# Altium footprint library Components.PcbLib: 17 footprints (part 1 of 2)
Each footprint in its own frame and in the unit in brackets; x right, y up, seen from the top. Pads: shape width x height; smd on the part's side, far side on the other; paste and mask are expansions set on the pad; w line width, h text height; cw(c..) or ccw(c..) is an arc to the next point about the centre after c.
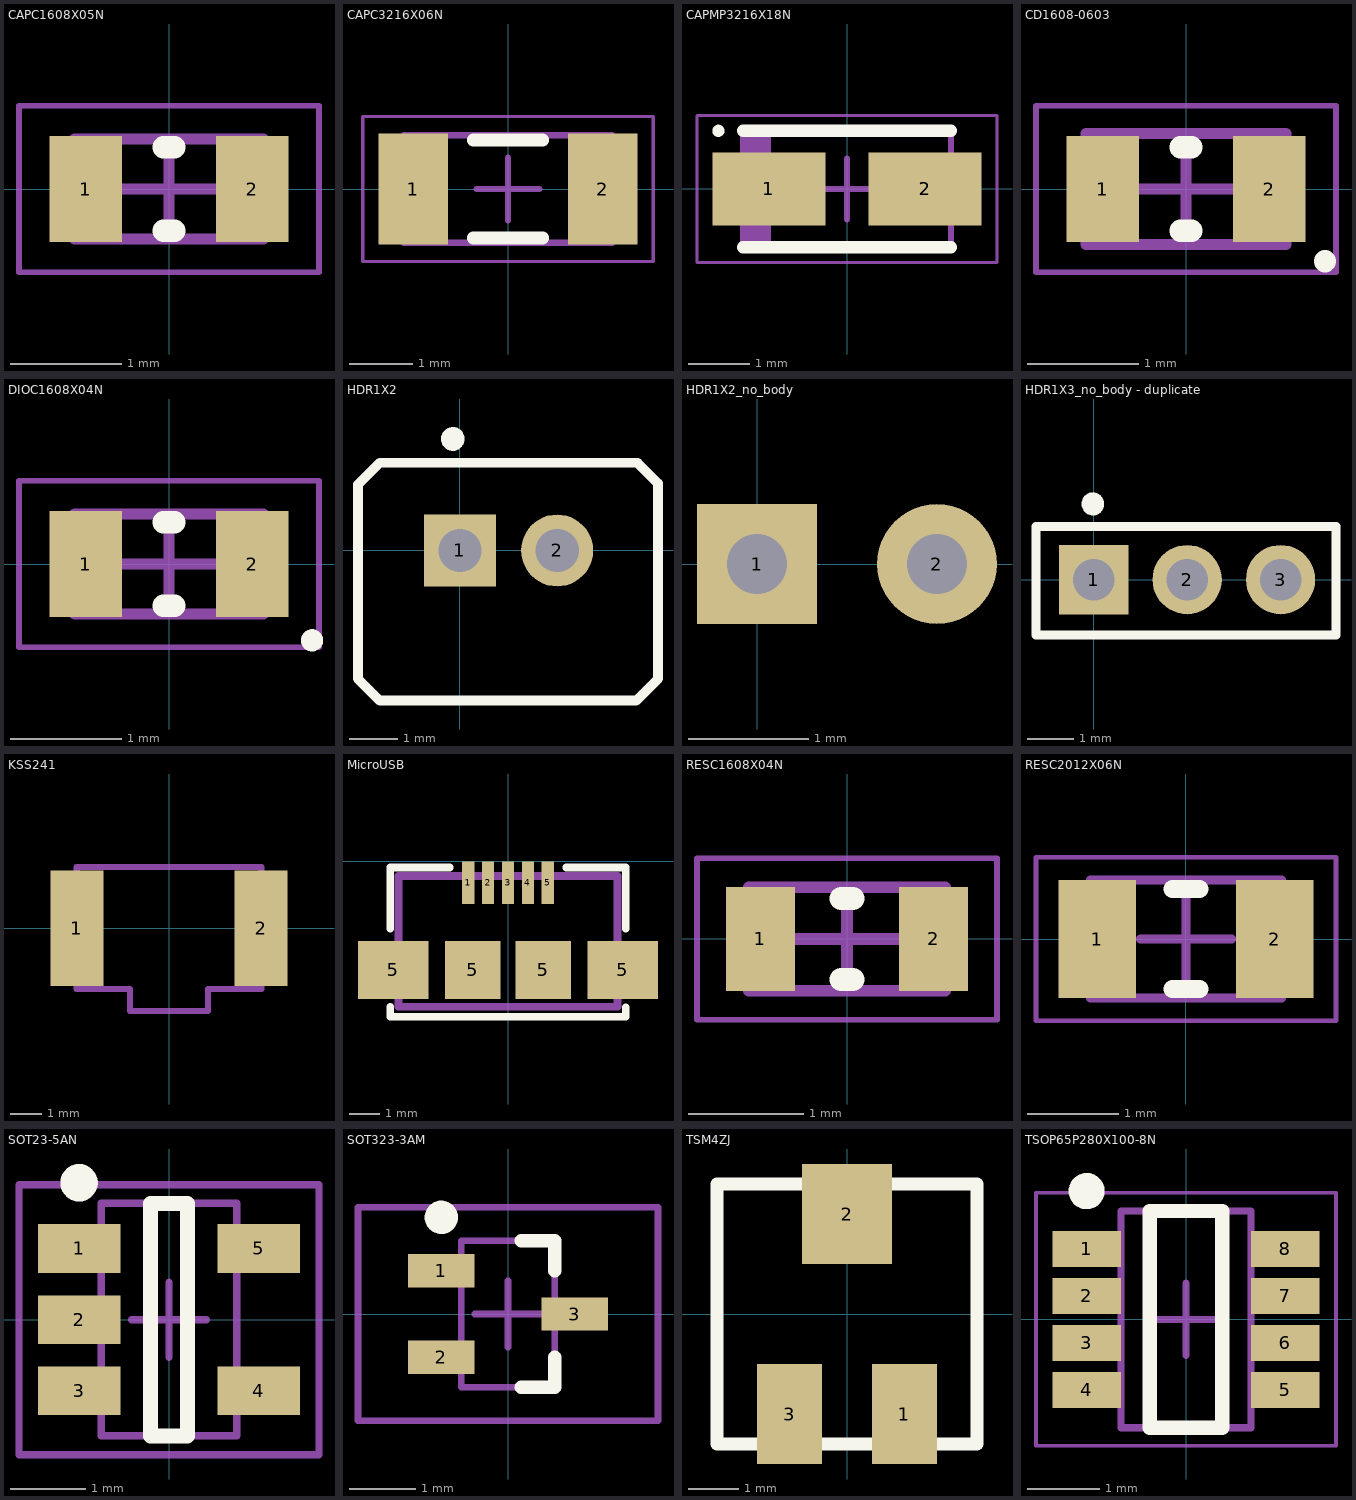
[diagram p0: the footprints below, top view; thin cyan lines are the x and y axes]

## CAPC1608X05N [mm] "Chip Capacitor, 2-Leads, Body 1.60x0.80mm, IPC Medium Density"
height 0.5
pads (2):
  rect 0.65x0.95 smd: 1(-0.75,0) 2(0.75,0)
Top Overlay:
  lines w0.2: -0.05,-0.375 0.05,-0.375 ; -0.05,0.375 0.05,0.375
Mechanical 13:
  lines w0.1: -0.85,-0.45 -0.85,0.45 0.85,0.45 0.85,-0.45 -0.85,-0.45
Mechanical 15:
  lines w0.05: -1.35,-0.75 -1.35,0.75 1.35,0.75 1.35,-0.75 -1.35,-0.75
  lines w0.1: -0.45,0 0.45,0 ; 0,-0.45 0,0.45
3D body: height 0.5, standoff 0, extent -0.6,-0.45 0.6,0.45
3D body: height 0.5, standoff 0, extent -0.85,-0.45 -0.6,0.45
3D body: height 0.5, standoff 0, extent 0.6,-0.45 0.85,0.45

## CAPC3216X06N [mm] "Chip Capacitor, 2-Leads, Body 3.20x1.60mm, IPC Medium Density"
height 0.6
pads (2):
  rect 1.1x1.75 smd: 1(-1.5,0) 2(1.5,0)
Top Overlay:
  lines w0.2: -0.55,-0.775 0.55,-0.775 ; -0.55,0.775 0.55,0.775
Mechanical 13:
  lines w0.1: -1.65,-0.85 1.65,-0.85 1.65,0.85 -1.65,0.85 -1.65,-0.85
Mechanical 15:
  lines w0.05: -2.3,-1.15 2.3,-1.15 2.3,1.15 -2.3,1.15 -2.3,-1.15
  lines w0.1: -0.5,0 0.5,0 ; 0,-0.5 0,0.5
3D body: height 0.6, standoff 0, extent 1.15,-0.85 1.65,0.85
3D body: height 0.6, standoff 0, extent -1.65,-0.85 -1.15,0.85
3D body: height 0.6, standoff 0, extent -1.15,-0.85 1.15,0.85

## CAPMP3216X18N [mm] "Molded Capacitor, 2-Leads, Body 3.20x1.60mm, IPC Medium Density"
height 1.8
pads (2):
  rect 1.85x1.2 smd: 1(-1.275,0) 2(1.275,0)
Top Overlay:
  circle w0.1: c-2.1,0.95 r0.05
  lines w0.2: -1.7,-0.95 1.7,-0.95 ; -1.7,0.95 1.7,0.95
Mechanical 13:
  rectangle: -1.7,-0.9 -1.243,0.9
  lines w0.1: -1.7,-0.9 -1.7,0.9 1.7,0.9 1.7,-0.9 -1.7,-0.9
Mechanical 15:
  lines w0.05: -2.45,-1.2 -2.45,1.2 2.45,1.2 2.45,-1.2 -2.45,-1.2
  lines w0.1: -0.5,0 0.5,0 ; 0,-0.5 0,0.5
3D body: height 1.8, standoff 0, extent -1.7,-0.9 1.7,0.9

## CD1608-0603 [mm]
pads (2):
  rect 0.65x0.95 smd: 1(-0.75,0) 2(0.75,0)
Top Overlay:
  lines w0.2: -0.05,-0.375 0.05,-0.375 ; -0.05,0.375 0.05,0.375 ; 1.25,-0.65 1.25,-0.65
Mechanical 1:
  lines w0.1: -0.9,-0.5 -0.9,0.5 0.9,0.5 0.9,-0.5 -0.9,-0.5
Mechanical 15:
  lines w0.05: -1.35,-0.75 1.35,-0.75 1.35,0.75 -1.35,0.75 -1.35,-0.75
  lines w0.1: -0.45,0 0.45,0 ; 0,-0.45 0,0.45
3D body "LED0603.STEP": height 0.59, standoff -0.01, extent -0.8,-0.4 0.8,0.4

## DIOC1608X04N [mm] "Chip Diode, 2-Leads, Body 1.60x0.80mm, IPC Medium Density"
height 0.4
pads (2):
  rect 0.65x0.95 smd: 1(-0.75,0) 2(0.75,0)
Top Overlay:
  circle w0.1: c1.287,-0.687 r0.05
  lines w0.2: -0.05,-0.375 0.05,-0.375 ; -0.05,0.375 0.05,0.375
Mechanical 13:
  lines w0.1: -0.85,-0.45 -0.85,0.45 0.85,0.45 0.85,-0.45 -0.85,-0.45
Mechanical 15:
  lines w0.05: -1.35,-0.75 -1.35,0.75 1.35,0.75 1.35,-0.75 -1.35,-0.75
  lines w0.1: -0.45,0 0.45,0 ; 0,-0.45 0,0.45
3D body: height 0.4, standoff 0, extent -0.6,-0.45 0.6,0.45
3D body: height 0.4, standoff 0, extent -0.85,-0.45 -0.6,0.45
3D body: height 0.4, standoff 0, extent 0.6,-0.45 0.85,0.45

## HDR1X2 [mm]
pads (2):
  rect 1.5x1.5 hole 0.9: 1(0,0)
  round 1.5 hole 0.9: 2(2.025,0)
Top Overlay:
  circle w0.01: c-0.15,2.325 r0.237
  region: -0.15,2.088 -0.197,2.088 -0.284,2.124 -0.351,2.191 -0.387,2.278 -0.387,2.325 -0.387,2.372 -0.351,2.459 -0.284,2.526 -0.197,2.562 -0.15,2.562 -0.103,2.562 -0.016,2.526 0.051,2.459 0.087,2.372 0.087,2.325 0.087,2.278 0.051,2.191 -0.016,2.124 -0.103,2.088
  lines w0.2: -2.125,-2.675 -1.675,-3.125 3.675,-3.125 4.125,-2.675 4.125,1.4 3.7,1.825 -1.675,1.825 -2.125,1.375 -2.125,-2.675
3D body "c-440054-2-e-3d.stp": height 6, standoff -3.45, extent -2,-3 4,1.7

## HDR1X2_no_body [mm] "No body HDR1X2"
pads (2):
  rect 1x1 hole 0.5: 1(0,0)
  round 1 hole 0.5: 2(1.5,0)

## HDR1X3_no_body - duplicate [mm] "No body HDR1X3"
pads (3):
  rect 1.5x1.5 hole 0.9: 1(0,0)
  round 1.5 hole 0.9: 2(2.025,0) 3(4.05,0)
Top Overlay:
  circle w0.01: c-0.019,1.641 r0.237
  region: -0.019,1.404 -0.066,1.404 -0.153,1.44 -0.22,1.506 -0.256,1.594 -0.256,1.641 -0.256,1.688 -0.22,1.775 -0.153,1.842 -0.066,1.878 -0.019,1.878 0.028,1.878 0.115,1.842 0.182,1.775 0.218,1.688 0.218,1.641 0.218,1.594 0.182,1.506 0.115,1.44 0.028,1.404
  lines w0.2: -1.25,-1.2 5.25,-1.2 5.25,1.15 -1.25,1.15 -1.25,-1.2

## KSS241 [mm] "Subminiature SMT Side Actuated"
height 1.7
pads (2):
  rect 1.7x3.7 smd: 1(-2.95,0) 2(2.95,0)
Mechanical 15:
  lines w0.2: -2.95,-1.95 -2.95,1.95 2.95,1.95 2.95,-1.95 1.25,-1.95 1.25,-2.65 -1.25,-2.65 -1.25,-1.95 -2.95,-1.95
3D body: height 1.7, standoff 0, extent -2.949,-2.649 2.949,1.949

## MicroUSB [mm] "AMPHENOL FCI  10104111-0001LF, Micro USB type AB, USB 2.0"
height 3.07
pads (9):
  rect 0.4x1.4 smd: 1(-1.3,-0.7) 2(-0.65,-0.7) 3(0,-0.7) 4(0.65,-0.7) 5(1.3,-0.7)
  rect 2.3x1.9 smd: 5(-3.75,-3.55) 5(3.75,-3.55)
  rect 1.8x1.9 smd: 5(-1.15,-3.55) 5(1.15,-3.55)
Top Overlay:
  lines w0.254: -3.85,-4.75 -3.85,-5.075 3.85,-5.075 3.85,-4.775 ; -3.85,-2.2 -3.85,-0.2 -1.9,-0.2 ; 1.9,-0.2 3.85,-0.2 3.85,-2.2
Mechanical 1:
  lines w0.254: -3.575,-4.75 -3.575,-0.475 3.575,-0.475 3.575,-4.75 -3.575,-4.75
3D body: height 3.07, standoff 0, extent -3.702,-4.877 3.702,-0.348

## RESC1608X04N [mm] "Chip Resistor, 2-Leads, Body 1.60x0.80mm, IPC Medium Density"
height 0.4
pads (2):
  rect 0.6x0.9 smd: 1(-0.75,0) 2(0.75,0)
Top Overlay:
  lines w0.2: -0.05,-0.35 0.05,-0.35 ; -0.05,0.35 0.05,0.35
Mechanical 13:
  lines w0.1: -0.85,-0.45 -0.85,0.45 0.85,0.45 0.85,-0.45 -0.85,-0.45
Mechanical 15:
  lines w0.05: -1.3,-0.7 -1.3,0.7 1.3,0.7 1.3,-0.7 -1.3,-0.7
  lines w0.1: -0.45,0 0.45,0 ; 0,-0.45 0,0.45
3D body: height 0.4, standoff 0, extent -0.6,-0.45 0.6,0.45
3D body: height 0.4, standoff 0, extent -0.85,-0.45 -0.6,0.45
3D body: height 0.4, standoff 0, extent 0.6,-0.45 0.85,0.45

## RESC2012X06N [mm] "Chip Resistor, 2-Leads, Body 2.00x1.25mm, IPC Medium Density"
height 0.6
pads (2):
  rect 0.85x1.3 smd: 1(-0.975,0) 2(0.975,0)
Top Overlay:
  lines w0.2: -0.15,-0.55 0.15,-0.55 ; -0.15,0.55 0.15,0.55
Mechanical 13:
  lines w0.1: -1.05,-0.65 -1.05,0.65 1.05,0.65 1.05,-0.65 -1.05,-0.65
Mechanical 15:
  lines w0.05: -1.65,-0.9 -1.65,0.9 1.65,0.9 1.65,-0.9 -1.65,-0.9
  lines w0.1: -0.5,0 0.5,0 ; 0,-0.5 0,0.5
3D body: height 0.6, standoff 0, extent -0.7,-0.65 0.7,0.65
3D body: height 0.6, standoff 0, extent -1.05,-0.65 -0.7,0.65
3D body: height 0.6, standoff 0, extent 0.7,-0.65 1.05,0.65

## SOT23-5AN [mm]
pads (5):
  rect 1.1x0.65 smd: 1(-1.2,0.95) 2(-1.2,0) 3(-1.2,-0.95) 4(1.2,-0.95) 5(1.2,0.95)
Top Overlay:
  circle w0.25: c-1.2,1.825 r0.125
  lines w0.2: -0.25,-1.55 0.25,-1.55 0.25,1.55 -0.25,1.55 -0.25,-1.55
Mechanical 13:
  lines w0.1: -0.9,-1.55 -0.9,1.55 0.9,1.55 0.9,-1.55 -0.9,-1.55
Mechanical 15:
  lines w0.1: -0.5,0 0.5,0 ; 0,-0.5 0,0.5 ; -2,-1.8 -2,1.8 2,1.8 2,-1.8 -2,-1.8
3D body "SOT_23_5.STEP": height 1.55, standoff -0.01, extent -1.5,-1.525 1.505,1.525

## SOT323-3AM [mm] "SOT323, 3-Leads, Body 2.0x1.3mm, Pitch 0.65mm, Lead Span 2.1mm, IPC Low Density"
height 1
pads (3):
  rect 1x0.5 smd: 1(-1,0.65) 2(-1,-0.65) 3(1,0)
Top Overlay:
  circle w0.25: c-1,1.45 r0.125
  lines w0.2: 0.2,-1.1 0.7,-1.1 0.7,-0.65 ; 0.2,1.1 0.7,1.1 0.7,0.65
Mechanical 13:
  lines w0.1: -0.7,-1.1 -0.7,1.1 0.7,1.1 0.7,-1.1 -0.7,-1.1
Mechanical 15:
  lines w0.1: -0.5,0 0.5,0 ; 0,-0.5 0,0.5 ; -2.25,-1.6 -2.25,1.6 2.25,1.6 2.25,-1.6 -2.25,-1.6
3D body "SOT_323.STEP": height 1.07, standoff -0.03, extent -1.1,-1 1,1

## TSM4ZJ [mm] "5 mm Square Surface Mount Miniature Trimmers Multi-Turn  Cermet Sealed"
height 3.5
pads (3):
  rect 1.3x2 smd: 1(1.15,-2) 3(-1.15,-2)
  rect 1.8x2 smd: 2(0,2)
Top Overlay:
  lines w0.254: -2.6,-2.6 2.6,-2.6 2.6,2.6 -2.6,2.6 -2.6,-2.6
3D body: height 3.5, standoff 0, extent -2.599,-2.599 2.599,2.599

## TSOP65P280X100-8N [mm] "TSOP, 8-Leads, Body 2.90x1.63mm, Pitch 0.65mm, IPC Medium Density"
height 1
pads (8):
  rect 0.95x0.5 smd: 1(-1.375,0.975) 2(-1.375,0.325) 3(-1.375,-0.325) 4(-1.375,-0.975) 5(1.375,-0.975) 6(1.375,-0.325) 7(1.375,0.325) 8(1.375,0.975)
Top Overlay:
  circle w0.25: c-1.375,1.775 r0.125
  lines w0.2: -0.5,-1.5 -0.5,1.5 0.5,1.5 0.5,-1.5 -0.5,-1.5
Mechanical 13:
  lines w0.1: -0.9,-1.5 -0.9,1.5 0.9,1.5 0.9,-1.5 -0.9,-1.5
Mechanical 15:
  lines w0.05: -2.075,-1.75 -2.075,1.75 2.075,1.75 2.075,-1.75 -2.075,-1.75
  lines w0.1: -0.5,0 0.5,0 ; 0,-0.5 0,0.5
3D body: height 1, standoff 0.2, extent -0.9,-1.5 0.9,1.5